# Altium schematic symbol library SM712.SCHLIB: 1 symbol
Pins are listed as number, name and electrical type; pins without a type are passive.

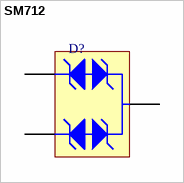
[diagram p0: symbol SM712]

## SM712
designator D?
pins: 1 IO1, 2 IO2, 3 GND
1 alternate drawing of the same symbol